# Altium schematic symbol library PULV5.SchLib: 46 symbols
Pins are listed as number, name and electrical type; pins without a type are passive.

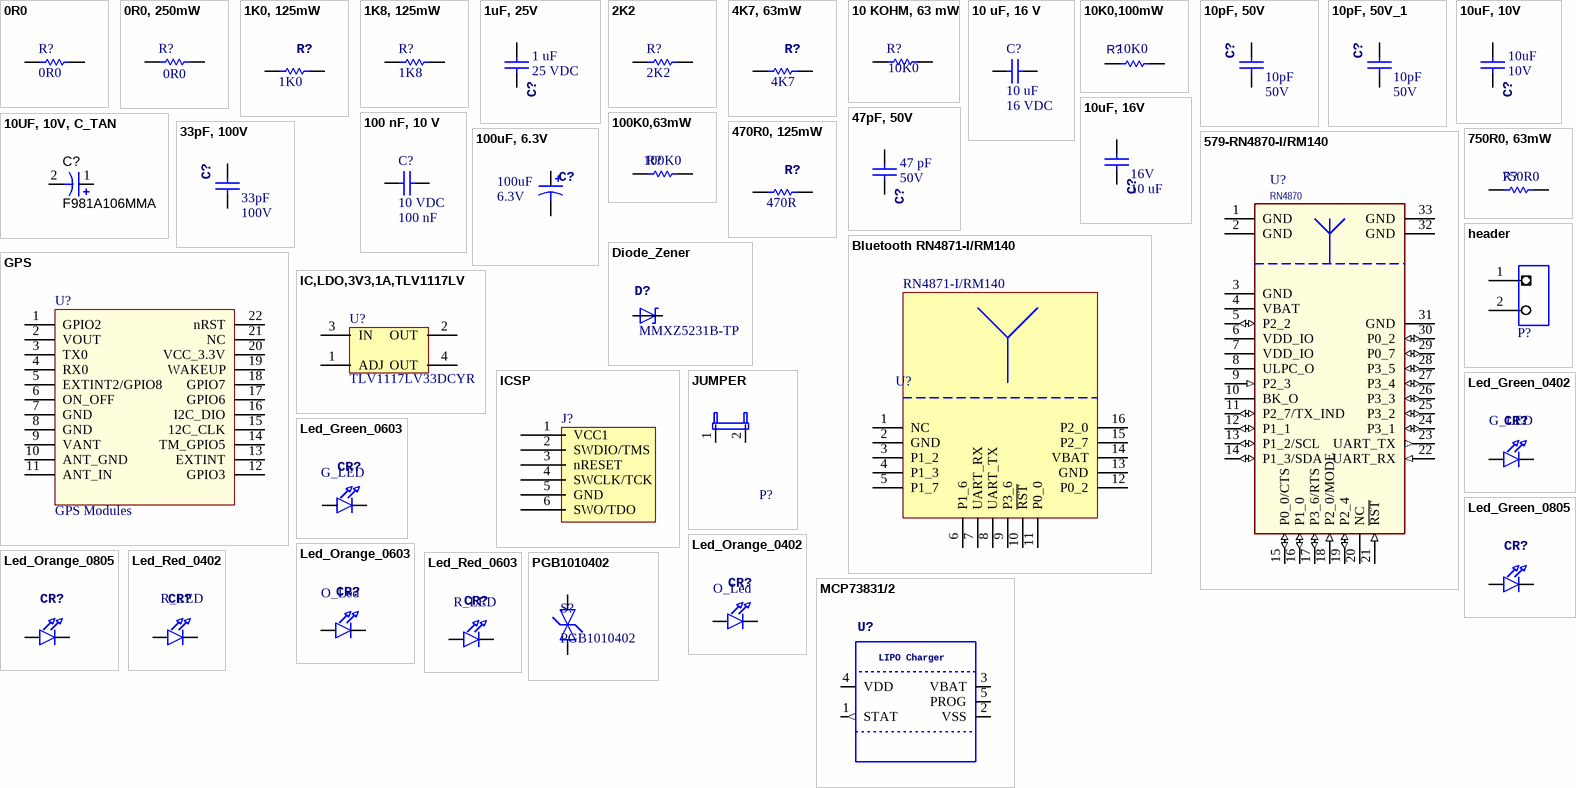
[diagram p0: symbols 0R0 to PGB1010402]

## 0R0
designator R?, comment Resistance: 0R0  (hidden comment: PANASONIC ELECTRONIC COMPONENTS)
Resistor; Manufacturer Part Number: ERJ-2GE0R00X; Product Range: ERJ2; Voltage Rating: 50; Resistor Case Style: 0402 [1005 Metric]; Power Rating: 100; Resistor Element Type: Thick Film; Supplier 1: Newark; Manufacturer: PANASONIC ELECTRONIC COMPONENTS; RoHS: YES; Stock 1: 130000; Pricing 1: 1=0.006, 10000=0.006 (USD); Resistance Tolerance: -; ComponentLink1URL: http://www.farnell.com/datasheets/2059623.pdf; ComponentLink1Description: http://www.farnell.com/datasheets/2059623.pdf; Supplier Part Number 1: 97W7189
footprint 0402_RES
pins: 1, 2

## 0R0, 250mW
designator R?, comment Resistance: 0R0  (hidden comment: CRCW06030000Z0EAHP)
Resistor; Manufacturer: VISHAY; Supplier 1: Newark; Manufacturer Part Number: CRCW06030000Z0EAHP; Stock 1: 41503; Pricing 1: 1=0.274, 25=0.153, 50=0.12, 100=0.088, 250=0.072, 500=0.055, 1000=0.038, 2500=0.03 (USD); ComponentLink1URL: http://www.farnell.com/datasheets/2339608.pdf; ComponentLink1Description: http://www.farnell.com/datasheets/2339608.pdf; Supplier Part Number 1: 68R2987
footprint FERRITE
pins: 1, 2

## 1K0, 125mW
designator R?, comment Resistance: 1K0  (hidden comment: CRCW08051K00JNEB)
Resistor; Manufacturer: VISHAY; Voltage Rating: 150V; Resistor Case Style: 0805 [2012 Metric]; Power Rating: 125; Resistance Tolerance: 5%; Product Range: CRCW Series; Supplier 1: Newark; Manufacturer Part Number: CRCW08051K00JNEB; RoHS: YES; Stock 1: 2322; Pricing 1: 1=0.004, 25=0.004, 100=0.004 (USD); Packaging: Cut Tape; MSL: MSL 1 - Unlimited; ComponentLink1URL: http://www.vishay.com/docs/20014/smdpack.pdf; ComponentLink1Description: http://www.vishay.com/docs/20014/smdpack.pdf; ComponentLink2URL: http://www.farnell.com/cad/1552627.zip; ComponentLink2Description: http://www.farnell.com/cad/1552627.zip; ComponentLink3URL: http://www.farnell.com/datasheets/2111203.pdf?_ga=1.39057253.733356815.1493180800; ComponentLink3Description: http://www.farnell.com/datasheets/2111203.pdf?_ga=1.39057253.733356815.1493180800; Supplier Part Number 1: 65J1337
footprint 0805-R
pins: 1, 2

## 1K8, 125mW
designator R?, comment Resistance: 1K8  (hidden comment: CRCW08051K80JNEA)
RESISTOR; Manufacturer: VISHAY; Reel: *; Supplier 1: Newark; Manufacturer Part Number: CRCW08051K80JNEA; RoHS: YES; Stock 1: 6568; Pricing 1: 1=0.004, 25=0.004, 50=0.004, 100=0.004, 250=0.004, 500=0.004, 1000=0.004 (USD); ComponentLink1URL: http://www.vishay.com/docs/20014/smdpack.pdf; ComponentLink1Description: http://www.vishay.com/docs/20014/smdpack.pdf; ComponentLink2URL: http://www.farnell.com/cad/1552690.zip; ComponentLink2Description: http://www.farnell.com/cad/1552690.zip; ComponentLink3URL: http://www.farnell.com/datasheets/2111203.pdf?_ga=1.39057253.733356815.1493180800; ComponentLink3Description: http://www.farnell.com/datasheets/2111203.pdf?_ga=1.39057253.733356815.1493180800; Supplier Part Number 1: 59M6844
footprint 0805-R
pins: 1, 2

## 1uF, 25V
designator C?  Capacitance: 1 uF  Voltage Rating DC: 25 VDC
Cap_Cer; Manufacturer: Taiyo Yuden; Manufacturer Part Number: TMK107BLD105MA-T; Tolerance: 20 %; Capacitance - nF: 1000 nF; Dielectric: X5R; Product Status: New Product; Supplier 1: Mouser; RoHS: RoHS Compliant; Category: Multilayer Ceramic Capacitors MLCC - SMD/SMT; Stock 1: 6144; Pricing 1: 1=0.572, 10=0.280, 100=0.199, 500=0.179, 1000=0.152, 4000=0.152, 8000=0.118, 12000=0.108, 24000=0.104 (MXN); Height: 0.8 mm; Length: 1.6 mm; Package / Case: 0603 (1608 metric); Packaging: Cut Tape; Product: General Type MLCCs; Series: M; Termination Style: SMD/SMT; Width: 0.8 mm; Brand: Taiyo Yuden; Case Code - in: 0603; Case Code - mm: 1608; Maximum Operating Temperature: + 85 C; Minimum Operating Temperature: - 55 C; Product Type: Ceramic Capacitors; Standard Pack Qty: 4000; Subcategory: Capacitors; Termination: Standard; RoHS - Mouser: Y; Minimum Order Quantity: 1; Reeling: True; ComponentLink1URL: https://www.mouser.com/datasheet/2/396/mlcc02_e-1307760.pdf; ComponentLink1Description: https://www.mouser.com/datasheet/2/396/mlcc02_e-1307760.pdf; Supplier Part Number 1: 963-TMK107BLD105MA-T
footprint C0603
pins: 1, 2

## 2K2
designator R?, comment Resistance: 2K2  (hidden comment: ERJ-2RKF2201X)
Resistor; Manufacturer: PANASONIC; Resistor Case Style: 0402 [1005 Metric]; Product Range: ERJ2; Voltage Rating: 50; Resistor Element Type: Thick Film; Power Rating: 100; Resistance Tolerance: ± 1%; Supplier 1: Newark; Manufacturer Part Number: ERJ-2RKF2201X; RoHS: YES; Stock 1: 10000; Pricing 1: 1=0.294, 25=0.044, 100=0.026, 250=0.024, 500=0.02, 1000=0.017, 2500=0.016, 5000=0.013 (USD); ComponentLink1URL: http://www.farnell.com/cad/1560012.zip; ComponentLink1Description: http://www.farnell.com/cad/1560012.zip; ComponentLink2URL: http://www.farnell.com/datasheets/1911175.pdf; ComponentLink2Description: http://www.farnell.com/datasheets/1911175.pdf; Supplier Part Number 1: 64R5268
footprint 0402_RES
pins: 1, 2

## 4K7, 63mW
designator R?, comment Resistance: 4K7  (hidden comment: RC0402JR-134K7L)
Resistor; Manufacturer: YAGEO; Resistor Case Style: 0402 [1005 Metric]; Product Range: RC Series; Voltage Rating: 50; Resistor Element Type: Thick Film; Power Rating: 62.5; Resistance Tolerance: ± 5%; Supplier 1: Newark; Manufacturer Part Number: RC0402JR-134K7L; Stock 1: 67154; Pricing 1: 1=0.003, 25=0.003, 100=0.003, 250=0.003, 500=0.003, 1000=0.003, 2500=0.003 (USD); ComponentLink1URL: http://past.yageo.com/pdf/PYu-R_Packing_6.pdf; ComponentLink1Description: http://past.yageo.com/pdf/PYu-R_Packing_6.pdf; ComponentLink2URL: http://www.farnell.com/datasheets/2167052.pdf; ComponentLink2Description: http://www.farnell.com/datasheets/2167052.pdf; ComponentLink3URL: http://www.yageo.com/pdf/PYu-RC0402_51_RoHS_L_4.pdf; ComponentLink3Description: http://www.yageo.com/pdf/PYu-RC0402_51_RoHS_L_4.pdf; Supplier Part Number 1: 68R0040
footprint 0402_RES
pins: 1, 2

## 10 KOHM, 63 mW
designator R?, comment value 10K0  (hidden comment: CRCW040210K0FKTD)
Resistor; Manufacturer 1: VISHAY DALE; Supplier 1: Newark; Manufacturer Part Number: CRCW040210K0FKTD; RoHS: NO; Stock 1: 12163; Pricing 1: 1=0.073, 10=0.039, 100=0.023, 1000=0.019 (USD); ComponentLink1URL: http://www.farnell.com/datasheets/1914725.pdf; ComponentLink1Description: http://www.farnell.com/datasheets/1914725.pdf; Supplier Part Number 1: 96C9543
footprint 0402_RES
pins: 1, 2

## 10 uF, 16 V
designator C?, comment Capacitance: 10 uF  Voltage Rating DC: 16 VDC  (hidden comment: EMK107BBJ106MA-T)
Cap_Cer; Manufacturer: Taiyo Yuden; Tolerance: 20 %; Type: General Purpose; Class: Class 2; Dielectric: X5R; Supplier 1: Mouser; Manufacturer Part Number: EMK107BBJ106MA-T; RoHS: RoHS Compliant; Category: Multilayer Ceramic Capacitors MLCC - SMD/SMT; Stock 1: 78303; Pricing 1: 1=0.530, 10=0.278, 100=0.163, 500=0.126, 1000=0.100, 4000=0.100 (USD); Diameter: -; Height: 0.8 mm; Length: 1.6 mm; Package / Case: 0603 (1608 metric); Packaging: Reel; Product: General Type MLCCs; Series: M; Termination Style: SMD/SMT; Width: 0.8 mm; Brand: Taiyo Yuden; Case Code - in: 0603; Case Code - mm: 1608; Maximum Operating Temperature: + 85 C; Minimum Operating Temperature: - 55 C; Standard Pack Qty: 4000; Termination: -; RoHS - Mouser: Y; Minimum Order Quantity: 1; Reeling: True; ComponentLink1URL: http://www.mouser.com/ds/2/396/mlcc11_hq_e-541564.pdf; ComponentLink1Description: http://www.mouser.com/ds/2/396/mlcc11_hq_e-541564.pdf; Supplier Part Number 1: 963-EMK107BBJ106MA-T
footprint C0603
pins: 1, 2

## 10K0,100mW
designator R?, comment Resistance: 10K0  (hidden comment: CRCW060310K0FKEB)
Resistor; Manufacturer: Vishay / Dale; Power Rating: 100 mW (1/10 W); Temperature Coefficient: 100 PPM / C; Tolerance: 1 %; Voltage Rating: 75 V; Qualification: AEC-Q200; Supplier 1: Mouser; Manufacturer Part Number: CRCW060310K0FKEB; RoHS: RoHS Compliant By Exemption; Category: Thick Film Resistors - SMD; Stock 1: 86899; Pricing 1: 1=0.130, 10=0.048, 100=0.020, 1000=0.013, 10000=0.008, 30000=0.005 (MXN); Application: Automotive Grade; Features: -; Height: 0.45 mm; Length: 1.55 mm; Package / Case: -; Packaging: Cut Tape; Product: Thick Film Resistors SMD; Series: D/CRCW e3; Technology: Thick Film; Termination Style: SMD/SMT; Type: Chip Resistor; Width: 0.85 mm; Brand: Vishay / Dale; Mounting Style: PCB Mount; Case Code - in: 0603; Case Code - mm: 1608; Maximum Operating Temperature: + 155 C; Minimum Operating Temperature: - 55 C; Product Type: Thick Film Resistors; Standard Pack Qty: 10000; Subcategory: Resistors; RoHS - Mouser: E; Minimum Order Quantity: 1; Reeling: True; ComponentLink1URL: https://www.mouser.com/datasheet/2/427/dcrcwe3-1762152.pdf; ComponentLink1Description: https://www.mouser.com/datasheet/2/427/dcrcwe3-1762152.pdf; Supplier Part Number 1: 71-CRCW060310K0FKEB
footprint RESC0603
pins: 1, 2

## 10pF, 50V
designator C?, comment Capacitance: 10pF  Voltage Rating: 50V  (hidden comment: 04025A100JAT2A)
Cap_Cer; Manufacturer: AVX; Ceramic Capacitor Case: 0402 [1005 Metric]; Capacitance Tolerance: 5%; Dielectric Characteristic: C0G / NP0; Supplier 1: Newark; Manufacturer Part Number: 04025A100JAT2A; RoHS: YES; Stock 1: 235697; Pricing 1: 1=0.003, 25=0.003, 100=0.003, 250=0.003, 500=0.003, 1000=0.003, 2500=0.003 (USD); Product Range: -; Packaging: Cut Tape; ComponentLink1URL: http://www.farnell.com/datasheets/2068140.pdf; ComponentLink1Description: http://www.farnell.com/datasheets/2068140.pdf; Supplier Part Number 1: 96M1128
footprint 0805-C
pins: 1, 2

## 10pF, 50V_1
designator C?, comment Capacitance: 10pF  Voltage Rating: 50V  (hidden comment: 04025A100JAT2A)
Cap_Cer; Manufacturer: AVX; Ceramic Capacitor Case: 0402 [1005 Metric]; Capacitance Tolerance: 5%; Dielectric Characteristic: C0G / NP0; Supplier 1: Newark; Manufacturer Part Number: 04025A100JAT2A; RoHS: YES; Stock 1: 235697; Pricing 1: 1=0.003, 25=0.003, 100=0.003, 250=0.003, 500=0.003, 1000=0.003, 2500=0.003 (USD); Product Range: -; Packaging: Cut Tape; ComponentLink1URL: http://www.farnell.com/datasheets/2068140.pdf; ComponentLink1Description: http://www.farnell.com/datasheets/2068140.pdf; Supplier Part Number 1: 96M1128
footprint 0805-C
pins: 1, 2

## 10uF, 10V
designator C?, comment Capacitance: 10uF  Voltage Rating DC: 10V  (hidden comment: ZRB15XR61A106ME01D)
Cap_Cer; Manufacturer: Murata Electronics; Tolerance: 20 %; Type: General Purpose Multilayer Ceramic Chip Capacitor; Class: Class 2; Dielectric: X5R; Supplier 1: Mouser; Manufacturer Part Number: ZRB15XR61A106ME01D; RoHS: RoHS Compliant; Category: Multilayer Ceramic Capacitors MLCC - SMD/SMT; Stock 1: 361820; Pricing 1: 1=0.624, 10=0.436, 100=0.261, 500=0.196, 1000=0.165, 2500=0.137, 5000=0.129, 8000=0.117, 24000=0.113 (MXN); Height: 0.65 mm; Length: 1 mm; Package / Case: 0402 (1005 metric); Packaging: Cut Tape; Product: General Type MLCCs; Series: ZRB; Termination Style: SMD/SMT; Width: 0.5 mm; Brand: Murata Electronics; Case Code - in: 0402; Case Code - mm: 1005; Maximum Operating Temperature: + 85 C; Minimum Operating Temperature: - 55 C; Product Type: Ceramic Capacitors; Standard Pack Qty: 8000; Subcategory: Capacitors; Termination: Interposer Substrate; RoHS - Mouser: Y; Minimum Order Quantity: 1; Reeling: True; ComponentLink1URL: https://www.mouser.com/datasheet/2/281/ZRB15XR61A106ME01-01-1771691.pdf; ComponentLink1Description: https://www.mouser.com/datasheet/2/281/ZRB15XR61A106ME01-01-1771691.pdf; Supplier Part Number 1: 81-ZRB15XR61A106ME1D
footprint C0402
pins: 1, 2

## 10UF, 10V, C_TAN
designator C?, comment F981A106MMA
CAP_TAN; Manufacturer 1: NICHICON; Value: 10 uF; Product Range: NICHICON - F98 Series; Capacitance: 10; Capacitance Tolerance: ± 20%; Capacitor Case Style: 0603 ^1608 Metric]; ESR: 7.5; Description 1: NICHICON - F981A106MMA - CAPACITOR TANT, 10UF, 10V 20%; Supplier 1: Farnell; Stock 1: 9201; Pricing 1: 1=0.282, 10=0.236, 100=0.169, 250=0.148, 500=0.131, 1000=0.117 (GBP); Voltage Rating: 10; Operating Temperature Max: 125; Series: F98; ComponentLink1URL: http://www.nichicon.co.jp/english/products/pdfs/e-f98.pdf; ComponentLink1Description: http://www.nichicon.co.jp/english/products/pdfs/e-f98.pdf; Supplier Part Number 1: 1853431; Manufacturer Part Number 1: F981A106MMA; RoHS 1: YES; Manufacturer Part Number: F981A106MMA
footprint C0603_P
pins: 1 +, 2 -

## 10uF, 16V
designator C?, comment Voltage Rating DC: 16V  Capacitance: 10 uF  (hidden comment: GRM21BR61C106KE15L)
Cap_Cer; Manufacturer: Murata Electronics; Tolerance: 10 %; Type: General Purpose MLCC; Dielectric: X5R; Supplier 1: Mouser; Manufacturer Part Number: GRM21BR61C106KE15L; RoHS: RoHS Compliant; Category: Multilayer Ceramic Capacitors MLCC - SMD/SMT; Stock 1: 306628; Pricing 1: 1=0.338, 10=0.152, 100=0.103, 500=0.090, 1000=0.085, 3000=0.060, 9000=0.057, 24000=0.055, 45000=0.048 (MXN); Height: 1.25 mm; Length: 2 mm; Package / Case: 0805 (2012 metric); Packaging: Reel; Product: General Type MLCCs; Series: GRM; Termination Style: SMD/SMT; Width: 1.25 mm; Brand: Murata Electronics; Case Code - in: 0805; Case Code - mm: 2012; Maximum Operating Temperature: + 85 C; Minimum Operating Temperature: - 55 C; Standard Pack Qty: 3000; RoHS - Mouser: Y; Minimum Order Quantity: 1; Reeling: True; ComponentLink1URL: http://www.mouser.com/ds/2/281/c02e-2905.pdf; ComponentLink1Description: http://www.mouser.com/ds/2/281/c02e-2905.pdf; Supplier Part Number 1: 81-GRM21BR61C106KE15
footprint 0805-C
pins: 1, 2

## 33pF, 100V
designator C?, comment Capacitance: 33pF  Voltage Rating: 100V  (hidden comment: 08051A330JAT2A)
Cap_Cer; Manufacturer: AVX; Ceramic Capacitor Case: 0805 [2012 Metric]; Capacitance Tolerance: 5%; Dielectric Characteristic: C0G / NP0; Supplier 1: Newark; Manufacturer Part Number: 08051A330JAT2A; RoHS: YES; Stock 1: 2874; Pricing 1: 1=0.012, 25=0.012, 50=0.012, 100=0.012, 250=0.012, 500=0.012, 1000=0.012, 2500=0.012 (USD); Product Range: -; Packaging: Cut Tape; ComponentLink1URL: http://www.avx.com/docs/Catalogs/cpack.pdf; ComponentLink1Description: http://www.avx.com/docs/Catalogs/cpack.pdf; ComponentLink2URL: http://www.farnell.com/cad/1614359.zip; ComponentLink2Description: http://www.farnell.com/cad/1614359.zip; ComponentLink3URL: http://www.farnell.com/datasheets/2068140.pdf; ComponentLink3Description: http://www.farnell.com/datasheets/2068140.pdf; Supplier Part Number 1: 96K4771
footprint 0805-C
pins: 1, 2

## 47pF, 50V
designator C?, comment Capacitance: 47 pF  Voltage Rating DC: 50V  (hidden comment: GCQ1555C1H470JB01D)
Cap_Cer; Manufacturer: Murata Electronics; Tolerance: 5 %; Type: High Q Chip Multilayer Ceramic Capacitors for Automotive; Dielectric: C0G (NP0); Qualification: AEC-Q200; Supplier 1: Mouser; Manufacturer Part Number: GCQ1555C1H470JB01D; RoHS: RoHS Compliant; Category: Multilayer Ceramic Capacitors MLCC - SMD/SMT; Stock 1: 18694; Pricing 1: 1=0.455, 10=0.319, 100=0.191, 500=0.143, 1000=0.121, 2500=0.100, 5000=0.095, 10000=0.086, 20000=0.083 (MXN); Height: 0.5 mm; Length: 1 mm; Package / Case: 0402 (1005 metric); Packaging: Cut Tape; Product: Automotive MLCCs; Series: GCQ; Termination Style: SMD/SMT; Width: 0.5 mm; Brand: Murata Electronics; Case Code - in: 0402; Case Code - mm: 1005; Maximum Operating Temperature: + 125 C; Minimum Operating Temperature: - 55 C; Product Type: Ceramic Capacitors; Standard Pack Qty: 10000; Subcategory: Capacitors; Termination: Standard; RoHS - Mouser: Y; Minimum Order Quantity: 1; Reeling: True; ComponentLink1URL: https://www.mouser.com/datasheet/2/281/GCQ1555C1HR51WB01-01-1154307.pdf; ComponentLink1Description: https://www.mouser.com/datasheet/2/281/GCQ1555C1HR51WB01-01-1154307.pdf; Supplier Part Number 1: 81-GCQ1555C1H470JB1D
footprint C0402
pins: 1, 2

## 100 nF, 10 V
designator C?  Voltage Rating DC: 10 VDC  Capacitance - nF: 100 nF  (hidden comment: 100 nF, 10 V)
Cap_Cer; Manufacturer: Murata Electronics; Manufacturer Part Number: GRM155R71A104KA01D; Capacitance: 0.1 uF; Tolerance: 10 %; Type: General Purpose MLCC; Capacitance - pF: 100000 pF; Dielectric: X7R; Qualification: Commercial; Supplier 1: Mouser; RoHS: RoHS Compliant; Category: Multilayer Ceramic Capacitors MLCC - SMD/SMT; Stock 1: 259611; Pricing 1: 1=0.100, 10=0.006, 100=0.004, 500=0.003, 10000=0.003 (USD); Height: 0.5 mm; Length: 1 mm; Package / Case: 0402 (1005 metric); Packaging: Reel; Product: General Type MLCCs; Series: GRM; Termination Style: SMD/SMT; Width: 0.5 mm; Brand: Murata Electronics; Case Code - in: 0402; Case Code - mm: 1005; Maximum Operating Temperature: + 125 C; Minimum Operating Temperature: - 55 C; Standard Pack Qty: 10000; RoHS - Mouser: Y; Minimum Order Quantity: 1; Reeling: True; ComponentLink1URL: http://www.mouser.com/ds/2/281/c02e-2905.pdf; ComponentLink1Description: http://www.mouser.com/ds/2/281/c02e-2905.pdf; Supplier Part Number 1: 81-GRM155R71A104KA1D
footprint C0402
pins: 1, 2

## 100K0,63mW
designator R?, comment Resistance: 100K0  (hidden comment: CRCW0402100KFKED)
Resistor; Manufacturer: VISHAY; Supplier 1: Newark; Manufacturer Part Number: CRCW0402100KFKED; RoHS: YESX; Stock 1: 84915; Pricing 1: 1=0.131, 10=0.055, 25=0.05, 50=0.043, 100=0.038, 250=0.033, 500=0.026, 1000=0.021 (USD); ComponentLink1URL: http://www.farnell.com/cad/1551208.zip; ComponentLink1Description: http://www.farnell.com/cad/1551208.zip; ComponentLink2URL: http://www.farnell.com/datasheets/2310790.pdf; ComponentLink2Description: http://www.farnell.com/datasheets/2310790.pdf; Supplier Part Number 1: 61M5269
footprint 0402_RES
pins: 1, 2

## 100uF, 6.3V
designator C?, comment Capacitance: 100uF  Voltage Rating: 6.3V  (hidden comment: C3225X6S0J107M250AC)
Cap_Pol; Manufacturer: TDK; Ceramic Capacitor Case: 1210 [3225 Metric]; Capacitance Tolerance: 20%; Dielectric Characteristic: X6; Product Range: C Series; Supplier 1: Newark; Manufacturer Part Number: C3225X6S0J107M250AC; RoHS: YES; Stock 1: 1165; Pricing 1: 1=2.09, 10=1.72, 25=1.48, 50=1.24, 100=1.01, 250=0.95, 500=0.897 (USD); Packaging: Cut Tape; ComponentLink1URL: http://bcove.me/dwwzmldz; ComponentLink1Description: http://bcove.me/dwwzmldz; ComponentLink2URL: http://www.farnell.com/datasheets/2291921.pdf; ComponentLink2Description: http://www.farnell.com/datasheets/2291921.pdf; Supplier Part Number 1: 78Y7998
footprint C1210
pins: 1 +, 2 -

## 470R0, 125mW
designator R?, comment Resistance: 470R  (hidden comment: CRCW0805470RJNEA)
Resistor; Manufacturer: VISHAY; Supplier 1: Newark; Manufacturer Part Number: CRCW0805470RJNEA; RoHS: YES; Stock 1: 1520; Pricing 1: 1=0.131, 25=0.055, 50=0.043, 100=0.032, 250=0.032, 500=0.03, 1000=0.023 (USD); ComponentLink1URL: http://www.vishay.com/docs/20014/smdpack.pdf; ComponentLink1Description: http://www.vishay.com/docs/20014/smdpack.pdf; ComponentLink2URL: http://www.farnell.com/cad/1552941.zip; ComponentLink2Description: http://www.farnell.com/cad/1552941.zip; ComponentLink3URL: http://www.farnell.com/datasheets/2111203.pdf?_ga=1.39057253.733356815.1493180800; ComponentLink3Description: http://www.farnell.com/datasheets/2111203.pdf?_ga=1.39057253.733356815.1493180800; Supplier Part Number 1: 59M8584
footprint 0805-R
pins: 1, 2

## 579-RN4870-I/RM140
designator U?  value RN4870  (hidden comment: *)
BLUETOOTH; Manufacturer: Microchip Technology; Manufacturer Part Number: RN4870-I/RM140; Description: Bluetooth Modules (802.15.1) Bluetooth Low Energy BLE Module, Shielded, Antenna, ASCII Interface, 12x22mm; Antenna: Ceramic Chip; Data Rate: 10 kb/s; Frequency: 2.4 GHz; Frequency Range: 2.402 GHz to 2.48 GHz; Output Power: 0 dBm; Range: 50 m; Sensitivity: - 90 dBm; Shielding: Shielded; Interface Type: UART; Class: Bluetooth Low Energy (BLE); Modulation Technique: GFSK; Operating Supply Voltage: 3.3 V; Protocol: Bluetooth 5.0; Protocol - Bluetooth, BLE - 802.15.1: BLE; Product Status: New Product; Supplier 1: Mouser; RoHS: RoHS Compliant; Category: Bluetooth Modules (802.15.1); Stock 1: 157; Pricing 1: 1=9.14, 25=8.35 (MXN); Packaging: Tray; Product: Bluetooth Modules; Series: RN4870; Type: USB Adapter; Brand: Microchip Technology; Mounting Style: SMD/SMT; Maximum Operating Temperature: + 85 C; Minimum Operating Temperature: - 40 C; Product Type: Bluetooth Modules; Standard Pack Qty: 88; Subcategory: Wireless & RF Modules; RoHS - Mouser: Y; Minimum Order Quantity: 1; Reeling: False; ComponentLink1URL: https://www.mouser.com/datasheet/2/268/RN4870-71-Bluetooth-Low-Energy-Module-Data-Sheet-D-1658564.pdf; ComponentLink1Description: https://www.mouser.com/datasheet/2/268/RN4870-71-Bluetooth-Low-Energy-Module-Data-Sheet-D-1658564.pdf; Supplier Part Number 1: 579-RN4870-I/RM140
footprint MOD_BM70BLES1FC2
pins: 1 GND (power), 2 GND (power), 3 GND (power), 4 VBAT (power), 5 P2_2 (io), 6 VDD_IO (power), 7 VDD_IO (power), 8 ULPC_O, 9 P2_3 (in), 10 BK_O, 11 P2_7/TX_IND (io), 12 P1_1 (io), 13 P1_2/SCL (io), 14 P1_3/SDA (io), 15 P0_0/CTS (io), 16 P1_0 (io), 17 P3_6/RTS (io), 18 P2_0/MODE (in), 19 P2_4 (io), 20 NC, 21 ~{RST} (in), 22 UART_RX (in), 23 UART_TX (out), 24 P3_1 (io), 25 P3_2 (io), 26 P3_3 (io), 27 P3_4 (io), 28 P3_5 (io), 29 P0_7 (io), 30 P0_2 (io), 31 GND (power), 32 GND (power), 33 GND (power)
1 alternate drawing of the same symbol

## 750R0, 63mW
designator R?, comment Resistance: 750R0  (hidden comment: ERJ-2GEJ751X)
Resistor; Manufacturer: PANASONIC; Resistor Case Style: 0402 [1005 Metric]; Product Range: ERJ2; Voltage Rating: 50; Resistor Element Type: Thick Film; Power Rating: 100; Resistance Tolerance: ± 5%; Supplier 1: Newark; Manufacturer Part Number: ERJ-2GEJ751X; Stock 1: 36376; Pricing 1: 1=0.002, 25=0.002, 100=0.002, 250=0.002, 500=0.002, 1000=0.002 (USD); ComponentLink1URL: http://www.farnell.com/cad/1697902.zip; ComponentLink1Description: http://www.farnell.com/cad/1697902.zip; ComponentLink2URL: http://industrial.panasonic.com/cdbs/www-data/pdf/RDA0000/AOA0000C301.pdf; ComponentLink2Description: http://industrial.panasonic.com/cdbs/www-data/pdf/RDA0000/AOA0000C301.pdf; Supplier Part Number 1: 53W4178
footprint 0402_RES
pins: 1, 2

## Bluetooth RN4871-I/RM140
designator U?, comment RN4871-I/RM140
Bluetooth; Manufacturer: Microchip Technology; Antenna: Ceramic Chip; Data Rate: 10 kb/s; Frequency: 2.4 GHz; Frequency Range: 2.402 GHz to 2.48 GHz; Output Power: 0 dBm; Range: 10 m; Sensitivity: - 90 dBm; Shielding: Shielded; Interface Type: UART; Class: Bluetooth Low Energy (BLE); Modulation Technique: GFSK; Operating Supply Voltage: 3.3 V; Protocol: Bluetooth 5.0; Protocol - Bluetooth, BLE - 802.15.1: BLE; Product Status: New Product; Supplier 1: Mouser; RoHS: RoHS Compliant; Category: Bluetooth Modules (802.15.1); Stock 1: 0; Pricing 1: 1=9.14, 25=8.35 (MXN); Packaging: Tray; Product: Bluetooth Modules; Series: RN4870; Type: USB Adapter; Brand: Microchip Technology; Mounting Style: SMD/SMT; Maximum Operating Temperature: + 85 C; Minimum Operating Temperature: - 40 C; Product Type: Bluetooth Modules; Standard Pack Qty: 171; Subcategory: Wireless & RF Modules; RoHS - Mouser: Y; Minimum Order Quantity: 1; Reeling: False; Supplier Part Number 1: 579-RN4871-I/RM140; Manufacturer Part Number: RN4871-I/RM140
footprint RN4871-I/RM140
pins: 1 NC, 2 GND, 3 P1_2, 4 P1_3, 5 P1_7, 6 P1_6, 7 UART_RX, 8 UART_TX, 9 P3_6, 10 ~{RST}, 11 P0_0, 12 P0_2, 13 GND, 14 VBAT, 15 P2_7, 16 P2_0

## Diode_Zener
designator D?, comment Manufacturer Part Number: MMXZ5231B-TP  (hidden comment: MMSZ5231BT1G)
Diode_Zener; Manufacturer: MICRO COMMERCIAL COMPONENTS; Zener Voltage Vz Typ: 5.1; Power Dissipation Pd: 200; Diode Case Style: SOD-323; Zener Tolerance: 5%; No. of Pins: 2; Supplier 1: Newark; RoHS: YES; Stock 1: 410; Pricing 1: 1=0.602, 10=0.434, 100=0.256, 250=0.181, 500=0.139, 1000=0.098, 5000=0.082, 10000=0.07 (USD); Operating Temperature Max: 150 C; Product Range: -; Packaging: Cut Tape; ComponentLink1URL: http://61.222.192.61/mccsemi/up_pdf/Product%20Packaging.pdf; ComponentLink1Description: http://61.222.192.61/mccsemi/up_pdf/Product%20Packaging.pdf; ComponentLink2URL: http://www.farnell.com/datasheets/1699886.pdf; ComponentLink2Description: http://www.farnell.com/datasheets/1699886.pdf; Supplier Part Number 1: 51T4940
footprint SOD-123
pins: A, C

## GPS
designator U?, comment Product Type: GPS Modules  (hidden comment: 927-A2200-A)
GPS; Manufacturer: Maestro Wireless Solutions; Frequency: 1.575 GHz; Interface Type: UART, SPI; Number of Channels: 48 Channel; Acquisition Sensitivity: - 163 dBm; Horizontal Position Accuracy: 2.5 m; Operating Supply Current: 41 mA; Operating Supply Voltage: 3.3 V; Time To First Fix - Cold Start: 35 s; Supplier 1: Mouser; Manufacturer Part Number: A2200-A; RoHS: RoHS Compliant; Category: GPS Modules; Stock 1: 1186; Pricing 1: 1=21.31, 5=20.29, 10=19.37, 25=17.91, 50=17.42, 100=16.94, 250=15.50, 500=14.52, 1300=12.00 (MXN); Dimensions: 14 mm x 10.2 mm x 2.5 mm; Packaging: Cut Tape; Brand: Maestro Wireless Solutions; Mounting Style: SMD/SMT; Maximum Operating Temperature: + 85 C; Standard Pack Qty: 1300; Subcategory: Wireless & RF Modules; RoHS - Mouser: Y; Minimum Order Quantity: 1; Reeling: True; ComponentLink1URL: http://www.mouser.com/datasheet/2/251/Maestro_A2200_GPS_Module_Product_Brief_v14-2-1109224.pdf; ComponentLink1Description: http://www.mouser.com/datasheet/2/251/Maestro_A2200_GPS_Module_Product_Brief_v14-2-1109224.pdf; Supplier Part Number 1: 927-A2200-A
footprint GPS
pins: 1 GPIO2, 2 VOUT, 3 TX0, 4 RX0, 5 EXTINT2/GPIO8, 6 ON_OFF, 7 GND, 8 GND, 9 VANT, 10 ANT_GND, 11 ANT_IN, 12 GPIO3, 13 EXTINT, 14 TM_GPIO5, 15 12C_CLK, 16 I2C_DIO, 17 GPIO6, 18 GPIO7, 19 WAKEUP, 20 VCC_3.3V, 21 NC, 22 nRST

## header
designator P?  (value not drawn)
Bateria; Manufacturer Part Number: No aplica
footprint HDR1X2
pins: 1, 2

## IC,LDO,3V3,1A,TLV1117LV
designator U?, comment TLV1117LV33DCYR
Regulador3V3; Manufacturer: TEXAS INSTRUMENTS; Output Type: Fixed; Input Voltage Min: 2; Input Voltage Max: 5.5; Fixed Output Voltage Nom.: 3.3; Output Current: 1; Supplier 1: Newark; RoHS: YES; Stock 1: 547; Pricing 1: 1=0,618, 10=0,515, 100=0,332, 1000=0,266 (USD); Adjustable Output Voltage Min: -; Adjustable Output Voltage Max: -; ComponentLink1URL: http://www.farnell.com/simulation/1746677.zip; ComponentLink1Description: http://www.farnell.com/simulation/1746677.zip; ComponentLink2URL: http://www.ti.com/general/docs/lit/getliterature.tsp?genericPartNumber=TLV1117LV&amp;&amp;fileType=pdf; ComponentLink2Description: http://www.ti.com/general/docs/lit/getliterature.tsp?genericPartNumber=TLV1117LV&amp;&amp;fileType=pdf; Supplier Part Number 1: 48T4644; Manufacturer Part Number: TLV1117LV33DCYR
footprint SOT230P700X180-4AN
pins: 1 ADJ, 2 OUT, 3 IN, 4 OUT

## ICSP
designator J?  (value not drawn)
Footprint Programador; Manufacturer Part Number: No aplica
footprint TC2030-MCP-NL
pins: 1 VCC1, 2 SWDIO/TMS, 3 nRESET, 4 SWCLK/TCK, 5 GND, 6 SWO/TDO
1 alternate drawing of the same symbol

## JUMPER
designator P?, comment 452-00009  (value not drawn)
JUMPER; Manufacturer: Parallax; Accessory Type: Jumper (Shunt); Mounting Angle: Straight; Number of Positions: 2 Position; Pitch: 2.54 mm; Latching Type: Unlatched; Supplier 1: Mouser; Manufacturer Part Number: 452-00009; RoHS: RoHS Compliant; Category: Headers & Wire Housings; Stock 1: 900; Pricing 1: 1=1.29, 5=1.28 (MXN); Number of Rows: 1 Row; Product: Accessories; Type: -; Brand: Parallax; Product Type: Headers & Wire Housings; Standard Pack Qty: 1; Subcategory: Headers & Wire Housings; RoHS - Mouser: Y; Minimum Order Quantity: 1; Reeling: False; Supplier Part Number 1: 619-452-00009
footprint HDR1X2sin
pins: 1, 2

## Led_Green_0402
designator CR?, comment Product: G_LED  (hidden comment: SML-P11MTT86R)
Led_Green; Manufacturer: ROHM Semiconductor; Illumination Color: Green; Luminous Intensity: 2.1 mcd; If - Forward Current: 1 mA; Lens Transparency: Water Clear; Vf - Forward Voltage: 1.9 V; Wavelength/Color Temperature: 569 nm; Supplier 1: Mouser; Manufacturer Part Number: SML-P11MTT86R; RoHS: RoHS Compliant; Category: Standard LEDs - SMD; Stock 1: 15242; Pricing 1: 1=0.585, 10=0.376, 100=0.161, 1000=0.124, 5000=0.094 (MXN); Length: 1 mm; Orientation: Top View; Package / Case: 0402 (1006 metric); Packaging: Cut Tape; Series: SML-P11; Width: 0.6 mm; Brand: ROHM Semiconductor; Mounting Style: SMD/SMT; Viewing Angle: -; Maximum Operating Temperature: + 85 C; Minimum Operating Temperature: - 40 C; Moisture Sensitive: Yes; Product Type: LED - Standard; Standard Pack Qty: 5000; Subcategory: LEDs; Tradename: PICOLED; RoHS - Mouser: Y; Minimum Order Quantity: 1; Reeling: True; ComponentLink1URL: https://www.mouser.com/datasheet/2/348/sml-p11-e-1139217.pdf; ComponentLink1Description: https://www.mouser.com/datasheet/2/348/sml-p11-e-1139217.pdf; Supplier Part Number 1: 755-SML-P11MTT86R
footprint 0402-LED_GRE
pins: A, K

## Led_Green_0603
designator CR?, comment Product: G_LED  (hidden comment: KG DELMS1.22-PHQI-24-E6L6)
Led_Green; Manufacturer: OSRAM Opto Semiconductors; Illumination Color: Green; Lens Color: Colorless; Luminous Intensity: 52 mcd; Viewing Angle: 120 deg; If - Forward Current: 20 mA; Lens Transparency: Clear; Vf - Forward Voltage: 2 V; Wavelength/Color Temperature: 570 nm; Product Status: New Product; Supplier Part Number 1: 32M3102; Supplier 2: Mouser; Manufacturer Part Number: KG DELMS1.22-PHQI-24-E6L6; RoHS: RoHS Compliant; Category: Standard LEDs - SMD; Stock 2: 7946; Pricing 2: 1=0.546, 10=0.317, 100=0.182, 1000=0.142, 5000=0.122, 10000=0.112, 25000=0.104, 50000=0.095, 100000=0.091 (MXN); Height: 0.6 mm; Length: 1.6 mm; Orientation: Top View; Package / Case: 0603 (1608 metric); Packaging: Cut Tape; Series: TOPLED E 1608; Width: 0.8 mm; Brand: OSRAM Opto Semiconductors; Mounting Style: SMD/SMT; Maximum Operating Temperature: + 110 C; Minimum Operating Temperature: - 40 C; Moisture Sensitive: Yes; Product Type: LED - Standard; Standard Pack Qty: 5000; Subcategory: LEDs; RoHS - Mouser: Y; Minimum Order Quantity: 1; Reeling: True; Supplier Part Number 2: 720-KGDELMS122A4854
footprint 0603_LED
pins: A, K

## Led_Green_0805
designator CR?, comment NTE30003  (value not drawn)
Led_Green; Manufacturer: NTE ELECTRONICS; Supplier 1: Newark; Manufacturer Part Number: NTE30003; RoHS: YES; Stock 1: 372; Pricing 1: 5=3.69, 50=3.55, 100=3.42, 250=3.29, 500=3.15 (USD); ROHS COMPLIANT: YES; Supplier Part Number 1: 32M3086
footprint 0805-LED_GRE
pins: A, K

## Led_Orange_0402
designator CR?  Product: O_Led
Led_Orange; Manufacturer: ROHM Semiconductor; Manufacturer Part Number: SML-P12DTT86R; Illumination Color: Orange; Luminous Intensity: 100 mcd; If - Forward Current: 20 mA; Lens Transparency: Water Clear; Vf - Forward Voltage: 2.1 V; Wavelength/Color Temperature: 605 nm; Supplier 1: Mouser; RoHS: RoHS Compliant; Category: Standard LEDs - SMD; Stock 1: 22469; Pricing 1: 1=0.546, 10=0.347, 100=0.150, 1000=0.114, 5000=0.087 (MXN); Length: 1 mm; Orientation: Top View; Package / Case: 0402 (1005 metric); Packaging: Cut Tape; Series: SML-P1x; Width: 0.6 mm; Brand: ROHM Semiconductor; Mounting Style: SMD/SMT; Viewing Angle: -; Maximum Operating Temperature: + 85 C; Minimum Operating Temperature: - 40 C; Moisture Sensitive: Yes; Product Type: LED - Standard; Standard Pack Qty: 5000; Subcategory: LEDs; Tradename: PICOLED; RoHS - Mouser: Y; Minimum Order Quantity: 1; Reeling: True; ComponentLink1URL: https://www.mouser.com/datasheet/2/348/sml-p1-e-1809025.pdf; ComponentLink1Description: https://www.mouser.com/datasheet/2/348/sml-p1-e-1809025.pdf; Supplier Part Number 1: 755-SML-P12DTT86R
footprint 0402-LED_RED
pins: A, K

## Led_Orange_0603
designator CR?, comment Product: O_Led  (hidden comment: KO DELLS1.22-KHLI-24)
Led_Orange; Manufacturer: OSRAM Opto Semiconductors; Illumination Color: Orange; Lens Color: Colorless; Luminous Intensity: 8.2 mcd; Viewing Angle: 120 deg; If - Forward Current: 2 mA; Lens Transparency: Clear; Vf - Forward Voltage: 1.8 V; Wavelength/Color Temperature: 606 nm; Product Status: New Product; Supplier 1: Mouser; Manufacturer Part Number: KO DELLS1.22-KHLI-24; RoHS: RoHS Compliant; Category: Standard LEDs - SMD; Stock 1: 14406; Pricing 1: 1=0.520, 10=0.289, 100=0.117, 1000=0.096, 5000=0.075, 10000=0.060, 25000=0.056, 50000=0.051, 100000=0.049 (MXN); Height: 0.6 mm; Length: 1.6 mm; Orientation: Top View; Package / Case: 0603 (1608 metric); Packaging: Cut Tape; Series: TOPLED E 1608; Width: 0.8 mm; Brand: OSRAM Opto Semiconductors; Mounting Style: SMD/SMT; Maximum Operating Temperature: + 110 C; Minimum Operating Temperature: - 40 C; Moisture Sensitive: Yes; Product Type: LED - Standard; Standard Pack Qty: 5000; Subcategory: LEDs; RoHS - Mouser: Y; Minimum Order Quantity: 1; Reeling: True; Supplier Part Number 1: 720-KODELLS122A4850
footprint 0603_LED
pins: A, K

## Led_Orange_0805
designator CR?, comment NTE30022  (value not drawn)
Led_Orange; Manufacturer: NTE ELECTRONICS; Supplier 1: Newark; Manufacturer Part Number: NTE30022; Stock 1: 1789; Pricing 1: 5=2.91, 50=2.79, 100=2.69, 250=2.58, 500=2.48 (USD); Supplier Part Number 1: 32M3102
footprint 0805-LED_ORA
pins: A, K

## Led_Red_0402
designator CR?, comment Product: R_LED  (hidden comment: SML-P11VTT86R)
Led_Red; Manufacturer: ROHM Semiconductor; Illumination Color: Red; Luminous Intensity: 4 mcd; If - Forward Current: 1 mA; Lens Transparency: Water Clear; Vf - Forward Voltage: 1.8 V; Wavelength/Color Temperature: 626 nm; Supplier 1: Mouser; Manufacturer Part Number: SML-P11VTT86R; RoHS: RoHS Compliant; Category: Standard LEDs - SMD; Stock 1: 5489; Pricing 1: 1=0.494, 10=0.369, 100=0.200, 1000=0.151, 5000=0.151 (MXN); Length: 1 mm; Orientation: Top View; Package / Case: 0402 (1006 metric); Packaging: Cut Tape; Series: SML-P11; Width: 0.6 mm; Brand: ROHM Semiconductor; Mounting Style: SMD/SMT; Viewing Angle: -; Maximum Operating Temperature: + 85 C; Minimum Operating Temperature: - 40 C; Moisture Sensitive: Yes; Product Type: LED - Standard; Standard Pack Qty: 5000; Subcategory: LEDs; Tradename: PICOLED; RoHS - Mouser: Y; Minimum Order Quantity: 1; Reeling: True; ComponentLink1URL: https://www.mouser.com/datasheet/2/348/sml-p11-e-1139217.pdf; ComponentLink1Description: https://www.mouser.com/datasheet/2/348/sml-p11-e-1139217.pdf; Supplier Part Number 1: 755-SML-P11VTT86R
footprint 0402-LED_RED
pins: A, K

## Led_Red_0603
designator CR?, comment Product: R_LED  (hidden comment: KO DELLS1.22-KHLI-24)
Led_Red; Manufacturer: OSRAM Opto Semiconductors; Manufacturer Part Number: KR DELPS1.22-UHVI-26-H3Q4; Illumination Color: Red; Lens Color: Colorless; Luminous Intensity: 520 mcd; Viewing Angle: 120 deg; If - Forward Current: 20 mA; Lens Transparency: Clear; Vf - Forward Voltage: 2.2 V; Wavelength/Color Temperature: 617 nm; Product Status: New Product; Supplier 1: Mouser; RoHS: RoHS Compliant; Category: Standard LEDs - SMD; Stock 1: 22857; Pricing 1: 1=0.572, 10=0.346, 100=0.160, 1000=0.133, 5000=0.103, 10000=0.094, 25000=0.087, 50000=0.079, 100000=0.077 (MXN); Height: 0.6 mm; Length: 1.6 mm; Orientation: Top View; Package / Case: 0603 (1608 metric); Packaging: Cut Tape; Series: TOPLED E 1608; Width: 0.8 mm; Brand: OSRAM Opto Semiconductors; Mounting Style: SMD/SMT; Maximum Operating Temperature: + 110 C; Minimum Operating Temperature: - 40 C; Moisture Sensitive: Yes; Product Type: LED - Standard; Standard Pack Qty: 5000; Subcategory: LEDs; RoHS - Mouser: Y; Minimum Order Quantity: 1; Reeling: True; Supplier Part Number 1: 720-KRDELPS122A5163
footprint 0603_LED
pins: A, K

## MCP73831/2
designator U?, comment MCP73831T-2ACI/OT  (value not drawn)
Charger; Manufacturer: MICROCHIP; Battery Type: Li-Ion, Li-Pol; Input Voltage: 6; Battery Charge Voltage: 4.2; Charge Current Max: 500; Battery IC Case Style: SOT-23; No. of Pins: 5; No. of Series Cells: 1; Supplier 1: Newark; Manufacturer Part Number: MCP73831T-2ACI/OT; RoHS: YES; Stock 1: 3000; Pricing 1: 3000=0.619 (USD); Packaging: Tape & Reel; ComponentLink1URL: http://www.farnell.com/cad/1545964.zip; ComponentLink1Description: http://www.farnell.com/cad/1545964.zip; ComponentLink2URL: http://www.farnell.com/datasheets/2124927.pdf; ComponentLink2Description: http://www.farnell.com/datasheets/2124927.pdf; ComponentLink3URL: http://www.farnell.com/datasheets/2338016.pdf; ComponentLink3Description: http://www.farnell.com/datasheets/2338016.pdf; MCP73831/2: MCP73831/2; Temp:: Temp:; -40-85°C: -40-85°C; VDD:: VDD:; 3.75-6V: 3.75-6V; Supplier Part Number 1: 28X3685; LIPO Charger: LIPO Charger
footprint SOT23-5
pins: 1 STAT (out), 2 VSS, 3 VBAT (power), 4 VDD (power), 5 PROG

## PGB1010402
designator S?
ESD Suppressor; Manufacturer: Littelfuse; Manufacturer Part Number: PGB1010402KR; Clamping Voltage: 250 V; Number of Channels: 1 Channel; Cd - Diode Capacitance: 0.04 pF; Operating Supply Voltage: 12 VDC; Polarity: Bidirectional; Vesd - Voltage ESD Air Gap: 15 kV; Vesd - Voltage ESD Contact: 8 kV; Working Voltage: 12 V; Supplier 1: Mouser; RoHS: RoHS Compliant; Category: ESD Suppressors / TVS Diodes; Stock 1: 46461; Pricing 1: 1=0.754, 10=0.614, 100=0.386, 1000=0.298, 2500=0.254, 10000=0.237, 20000=0.224, 50000=0.218 (MXN); Package / Case: 0402 (1005 metric); Packaging: Cut Tape; Series: PGB10402; Termination Style: SMD/SMT; Brand: Littelfuse; Maximum Operating Temperature: + 125 C; Minimum Operating Temperature: - 65 C; Product Type: ESD Suppressors; Standard Pack Qty: 10000; Subcategory: TVS Diodes / ESD Suppression Diodes; RoHS - Mouser: Y; Minimum Order Quantity: 1; Reeling: True; ComponentLink1URL: https://www.mouser.com/datasheet/2/240/Littelfuse_PulseGuard_PGB1_Datasheet.pdf-461684.pdf; ComponentLink1Description: https://www.mouser.com/datasheet/2/240/Littelfuse_PulseGuard_PGB1_Datasheet.pdf-461684.pdf; Supplier Part Number 1: 576-PGB1010402KR
footprint Supresor_0402
pins: 1, 2

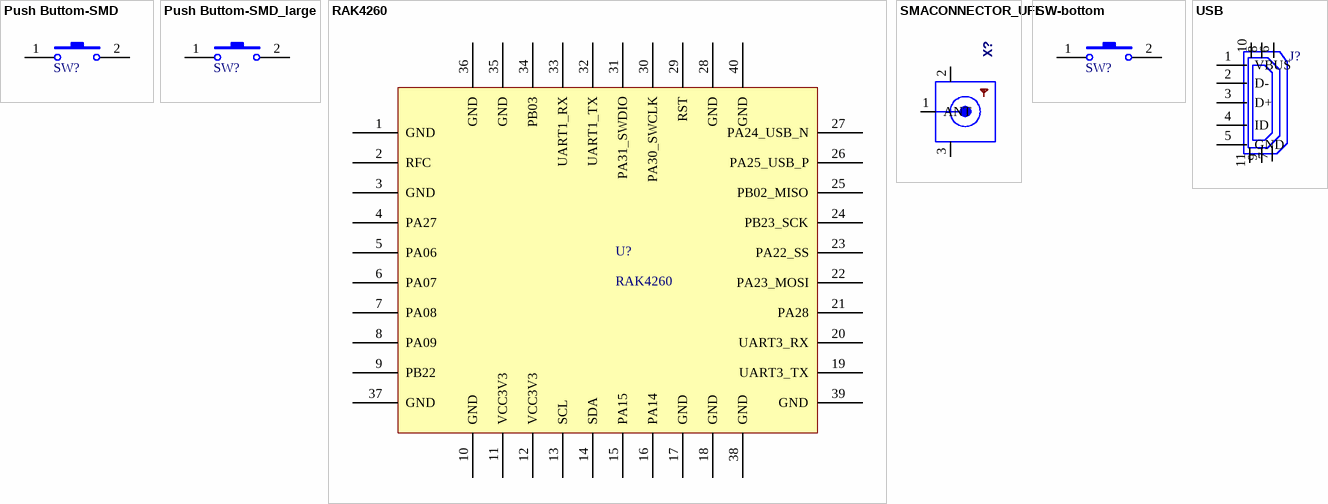
[diagram p1: symbols Push Buttom-SMD to USB]

## Push Buttom-SMD
designator SW?, comment EVQ-P6LB55  (value not drawn)
Push Button SMD; Manufacturer: Panasonic; Contact Form: SPST; Current Rating: 20 mA; Operating Force: 1.6 N; Switch Function: OFF - (ON); Voltage Rating DC: 15 VDC; Ground Terminal: No; Mounting Direction: Vertical; IP Rating: IP68; Supplier 1: Mouser; Manufacturer Part Number: EVQ-P6LB55; RoHS: RoHS Compliant; Category: Tactile Switches; Stock 1: 112689; Pricing 1: 1=0.715, 10=0.503, 100=0.447, 500=0.408, 1000=0.343, 2500=0.296, 10000=0.251 (MXN); Height: 0.58 mm; Length: 4.1 mm; Operating Temperature Range: - 20 C to + 70 C; Packaging: Cut Tape; Series: EVQP6; Termination Style: Gull Wing Lead; Width: 4.1 mm; Brand: Panasonic; Mounting Style: SMD/SMT; Product Type: Tactile Switches; Standard Pack Qty: 10000; Subcategory: Switches; RoHS - Mouser: Y; Minimum Order Quantity: 1; Reeling: True; ComponentLink1URL: http://www.mouser.com/datasheet/2/315/ATK0000CE23-64167.pdf; ComponentLink1Description: http://www.mouser.com/datasheet/2/315/ATK0000CE23-64167.pdf; Supplier Part Number 1: 667-EVQ-P6LB55
footprint Push Button SMD
pins: 1, 2

## Push Buttom-SMD_large
designator SW?, comment 95C04A3GWRT  (value not drawn)
Push Button SMD large; Manufacturer: Grayhill; Actuator: Rectangular; Contact Form: SPST; Current Rating: 50 mA; Operating Force: 160 g; Stem Height: 4.3 mm; Switch Function: OFF - (ON); Voltage Rating DC: 12 VDC; Ground Terminal: No; Illuminated: Non-Illuminated; Mounting Direction: Straight; Travel: 0.01 in; Supplier 1: Mouser; Manufacturer Part Number: 95C04A3GWRT; RoHS: RoHS Compliant; Category: Tactile Switches; Stock 1: 1446; Pricing 1: 1=0.650, 10=0.594, 100=0.450, 1000=0.332, 1800=0.315, 9000=0.298, 23400=0.291, 48600=0.281 (MXN); Color: Brown; Contact Plating: Silver; Height: 4.3 mm; Illumination Color: -; Length: 6 mm; Mounting Type: Snap-In; Packaging: Cut Tape; Power Rating: -; Product: Tactile Switches; Termination Style: Gull Wing Lead; Type: Momentary Pushbutton; Voltage Rating AC: -; Width: 3.5 mm; Brand: Grayhill; Lamp Type: -; Mounting Style: SMD/SMT; Maximum Operating Temperature: + 70 C; Minimum Operating Temperature: - 25 C; Product Type: Tactile Switches; Standard Pack Qty: 1800; Subcategory: Switches; RoHS - Mouser: Y; Minimum Order Quantity: 1; Reeling: True; ComponentLink1URL: https://www.mouser.com/datasheet/2/626/Tact_95C04-335311.pdf; ComponentLink1Description: https://www.mouser.com/datasheet/2/626/Tact_95C04-335311.pdf; Supplier Part Number 1: 706-95C04A3GWRT
footprint Push Button SMDsin
pins: 1, 2

## RAK4260
designator U?
MODULO LORA; Manufacturer 1: RAK; Manufacturer Part Number: RAK4260 LoRa® Module - US915; ComponentLink1URL: https://store.rakwireless.com/collections/lora-modules/products/rak4260-lora-module?variant=31767043735597
footprint RAK4260
pins: 1 GND, 2 RFC, 3 GND, 4 PA27, 5 PA06, 6 PA07, 7 PA08, 8 PA09, 9 PB22, 10 GND, 11 VCC3V3, 12 VCC3V3, 13 SCL, 14 SDA, 15 PA15, 16 PA14, 17 GND, 18 GND, 19 UART3_TX, 20 UART3_RX, 21 PA28, 22 PA23_MOSI, 23 PA22_SS, 24 PB23_SCK, 25 PB02_MISO, 26 PA25_USB_P, 27 PA24_USB_N, 28 GND, 29 RST, 30 PA30_SWCLK, 31 PA31_SWDIO, 32 UART1_TX, 33 UART1_RX, 34 PB03, 35 GND, 36 GND, 37 GND, 38 GND, 39 GND, 40 GND

## SMACONNECTOR_UFL
designator X?, comment RECE.20279.001E.01  (value not drawn)
Connector UFL; Manufacturer: Taoglas; Supplier 1: Mouser; Manufacturer Part Number: RECE.20279.001E.01; RoHS: RoHS Compliant; Category: RF Connectors / Coaxial Connectors; Stock 1: 0; Brand: Taoglas; Product Type: RF Connectors / Coaxial Connectors; Subcategory: RF Interconnects; Minimum Order Quantity: 1; Reeling: False; Supplier Part Number 1: N/A
footprint U.FL
pins: 1 ANT, 2 GND (power), 3 GND (power)

## SW-bottom
designator SW?, comment FSM4JSMATR  (value not drawn)
Bottom; Manufacturer: ALCOSWITCH - TE CONNECTIVITY; Supplier 1: Newark; Manufacturer Part Number: FSM4JSMATR; Stock 1: 9036; Pricing 1: 1=0.218 (USD); ComponentLink1URL: http://www.farnell.com/datasheets/1667183.pdf; ComponentLink1Description: http://www.farnell.com/datasheets/1667183.pdf; ComponentLink2URL: http://www.farnell.com/cad/1922404.pdf; ComponentLink2Description: http://www.farnell.com/cad/1922404.pdf; ComponentLink3URL: http://www.farnell.com/datasheets/921681.pdf; ComponentLink3Description: http://www.farnell.com/datasheets/921681.pdf; ComponentLink4URL: http://www.tycoelectronics.com/catalog/bin/TE.Connect?C=1&M=BYPN&TCPN=4-1437565-2&RQPN=FSM4JSMATR; ComponentLink4Description: http://www.tycoelectronics.com/catalog/bin/TE.Connect?C=1&M=BYPN&TCPN=4-1437565-2&RQPN=FSM4JSMATR; Supplier Part Number 1: 54M3408
footprint Push Button
pins: 1, 2

## USB
designator J?, comment 1981568-1  (value not drawn)
Micro USB; Manufacturer: AMP - TE CONNECTIVITY; Supplier 1: Newark; Manufacturer Part Number: 1981568-1; Stock 1: 1013; Pricing 1: 1=1.39, 10=1.39, 25=1.39, 50=1.29, 100=1.29, 250=1.29, 500=1.29 (USD); ComponentLink1URL: http://www.farnell.com/datasheets/1650952.pdf; ComponentLink1Description: http://www.farnell.com/datasheets/1650952.pdf; ComponentLink2URL: http://www.farnell.com/datasheets/1654342.pdf; ComponentLink2Description: http://www.farnell.com/datasheets/1654342.pdf; ComponentLink3URL: http://www.farnell.com/cad/1957472.pdf; ComponentLink3Description: http://www.farnell.com/cad/1957472.pdf; ComponentLink4URL: https://players.brightcove.net/1362235890001/BJ9h2Pe9_default/index.html?videoId=5970358614001; ComponentLink4Description: https://players.brightcove.net/1362235890001/BJ9h2Pe9_default/index.html?videoId=5970358614001; ComponentLink5URL: https://players.brightcove.net/1362235890001/BJ9h2Pe9_default/index.html?videoId=5970358640001; ComponentLink5Description: https://players.brightcove.net/1362235890001/BJ9h2Pe9_default/index.html?videoId=5970358640001; ComponentLink6URL: https://players.brightcove.net/1362235890001/BJ9h2Pe9_default/index.html?videoId=5970356014001; ComponentLink6Description: https://players.brightcove.net/1362235890001/BJ9h2Pe9_default/index.html?videoId=5970356014001; Supplier Part Number 1: 73M8666
footprint TYCO_19815681N
pins: 1 VBUS, 2 D-, 3 D+, 4 ID, 5 GND, 6, 7, 8, 9, 10, 11